# Altium schematic symbol library 野火_STM32F103C8T6核心板_V1.0_原理图封装库_AD格式.SCHLIB: 16 symbols
Pins are listed as number, name and electrical type; pins without a type are passive.

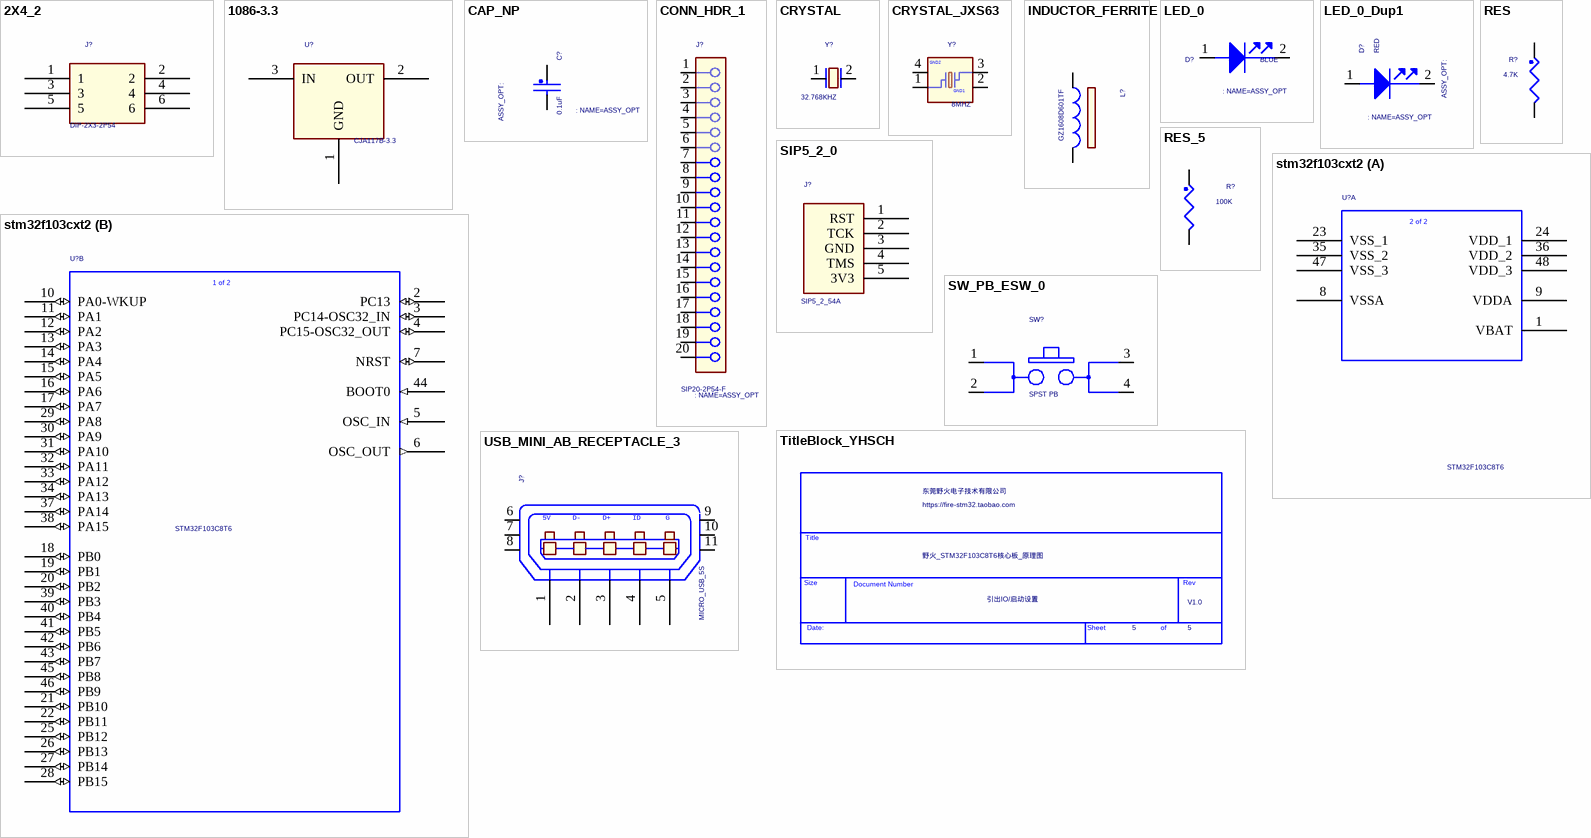
[diagram p0: symbols 2X4_2 to USB_MINI_AB_RECEPTACLE_3]

## 2X4_2
designator J?, comment DIP-2X3-2P54
footprint 2X4_2P54
footprint DIP-2X3-2P54
pins: 1, 2, 3, 4, 5, 6

## 1086-3.3
designator U?, comment CJA117B-3.3
footprint TO252-2
footprint SOT89
pins: 1 GND, 2 OUT, 3 IN

## CAP_NP
designator C?, comment 0.1uF
CAP CER 0.1UF 10V 10% X5R 0402; CLASS: DISCRETE; FPLIST: CC0402_25,CC0402_HD,0402_CC; CAD_APPROVED: Yes; MFG_PN01: C0402C104K8PAC; MFG_NAME01: KEMET; AGILE_PN: 150-75634; VOLTAGE: 10V; HEIGHT: 0.64MM; ROHS: Yes; Tolerance: 10%
footprint C0402
pins: 1, 2
text: NAME=ASSY_OPT

## CONN_HDR_1
designator J?, comment SIP20-2P54-F
CON 1X6 SKT TH 100MIL SP 344H AU 118L; CLASS: IO; CAD_APPROVED: Yes; ASSY_OPT: DNP; Temp_Range: -40°C to +105°C; MFG_PN01: 08001S3 0611-29RF; MFG_NAME01: ANYTRONIC CORPORATION LIMITED; AGILE_PN: 210-81616; HEIGHT: 8.75MM; ROHS: Yes
footprint SIP20-2P54-F
pins: 1, 2, 3, 4, 5, 6, 7, 8, 9, 10, 11, 12, 13, 14, 15, 16, 17, 18, 19, 20
text: NAME=ASSY_OPT

## CRYSTAL
designator Y?, comment 32.768KHZ
XTAL 32.768KHZ 7PF 20PPM -- SMT; CLASS: IC; CAD_APPROVED: Yes; MFG_PN01: FC-135 32.7680KA-AG3; MFG_NAME01: EPSON ELECTRONICS; AGILE_PN: 230-78102; HEIGHT: 0.9MM; ROHS: Yes
footprint 3215
pins: 1, 2

## CRYSTAL_JXS63
designator Y?, comment 8MHZ
XTAL 24MHZ -- 30PPM 3.2X2.5MM SMD; CLASS: IC; CAD_APPROVED: Yes; MFG_PN01: 7V24000002; MFG_NAME01: TXC CORP; AGILE_PN: 230-77452; HEIGHT: 0.9MM; ROHS: Yes
footprint 3225
pins: 1, 2 GND1 (power), 3, 4 GND2 (power)

## INDUCTOR_FERRITE
designator L?, comment GZ1608D601TF
IND FER BEAD 120 OHM@100MHZ 0.5A 25% 0402; PART_TYPE: FERRITE\BEAD; CLASS: DISCRETE; AGILE_PN: 180-77771; MFG_NAME01: Murata; MFG_PN01: BLM15AG121SN1D; CAD_APPROVED: Yes; FPLIST: IND_0402,0402_CC; Tolerance: 25%; ROHS: Yes; HEIGHT: 0.55MM
footprint L0603
pins: 1, 2

## LED_0
designator D?, comment BLUE
CLASS: IC
footprint LED0603
pins: 1 ANODE, 2 CATHODE
text: NAME=ASSY_OPT

## LED_0_Dup1
designator D?, comment RED
LED GRN SGL 25MA 0603; CLASS: IC; AGILE_PN: 370-76549; MFG_NAME01: KINGBRIGHT; MFG_PN01: KPT-1608SGC; CAD_APPROVED: Yes; ROHS: Yes; HEIGHT: 0.85MM
footprint LED0603
pins: 1 ANODE, 2 CATHODE
text: NAME=ASSY_OPT

## RES
designator R?, comment 4.7K
RES MF 1.0M 1/10W 5% 0402; CLASS: DISCRETE; AGILE_PN: 470-79978; MFG_NAME01: PANASONIC; MFG_PN01: ERJ-2GEJ105X; CAD_APPROVED: Yes; FPLIST: RC0402_25,RC0402_HD,0402_CC; HEIGHT: 0.4MM; Tolerance: 5%; ROHS: Yes
footprint R0402
pins: 1, 2

## RES_5
designator R?, comment 100K
RES MF ZERO OHM 1/16W 5% 0402; CLASS: DISCRETE; AGILE_PN: 470-75394; MFG_NAME01: ROHM; MFG_PN01: MCR01MZPJ000; CAD_APPROVED: Yes; FPLIST: RC0402_25,RC0402_HD,RC0402_X2,0402_CC; HEIGHT: 0.45 MM; Tolerance: 5%; ROHS: Yes
footprint R0402
pins: 1, 2

## SIP5_2_0
designator J?, comment SIP5_2_54A
footprint SIP5-2P54
pins: 1 RST, 2 TCK, 3 GND, 4 TMS, 5 3V3

## stm32f103cxt2
designator U?, comment STM32F103C8T6
Manufacturer_Part_Number: stm32f103cxt2; Designator: 2; Vendor: STMicroelectronics; OriginalSymbolOrigin: (30000,20000); PackageName: stm32f103cxt2; Copyright: Copyright (C) 2016 Accelerated Designs. All rights reserved; < Value >: STM32F103C8T6
footprint LQFP48-7x7mm
footprint lqfp48-050-0707
part A pins: 1 VBAT (power), 8 VSSA (power), 9 VDDA (power), 23 VSS_1 (power), 24 VDD_1 (power), 35 VSS_2 (power), 36 VDD_2 (power), 47 VSS_3 (power), 48 VDD_3 (power)
part B pins: 2 PC13 (io), 3 PC14-OSC32_IN (io), 4 PC15-OSC32_OUT (io), 5 OSC_IN (in), 6 OSC_OUT (out), 7 NRST (io), 10 PA0-WKUP (io), 11 PA1 (io), 12 PA2 (io), 13 PA3 (io), 14 PA4 (io), 15 PA5 (io), 16 PA6 (io), 17 PA7 (io), 18 PB0 (io), 19 PB1 (io), 20 PB2 (io), 21 PB10 (io), 22 PB11 (io), 25 PB12 (io), 26 PB13 (io), 27 PB14 (io), 28 PB15 (io), 29 PA8 (io), 30 PA9 (io), 31 PA10 (io), 32 PA11 (io), 33 PA12 (io), 34 PA13 (io), 37 PA14 (io), 38 PA15 (io), 39 PB3 (io), 40 PB4 (io), 41 PB5 (io), 42 PB6 (io), 43 PB7 (io), 44 BOOT0 (in), 45 PB8 (io), 46 PB9 (io)
part A text: 2 of 2
part B text: 1 of 2

## SW_PB_ESW_0
designator SW?, comment SPST PB
SW SPST MOM NO PB TACT 50mA 50V SMT; CLASS: IC; CAD_APPROVED: Yes; MFG_PN01: TL3301AF260QG/TR; MFG_NAME01: E SWITCH; AGILE_PN: 510-77562; HEIGHT: 5MM; ROHS: Yes
footprint SW4_3X3P5
pins: 1 A1, 2 A2, 3 B1, 4 B2

## TitleBlock_YHSCH
designator *?  Doc: 引出IO/启动设置  RevCode: V1.0  Title: 野火_STM32F103C8T6核心板_原理图  OrgName: 东莞野火电子技术有限公司  Page Number: 5  (hidden comment: TitleBlock_YHSCH)  (graphical)
Cage Code: 1; OrgAddr1: https://fire-stm32.taobao.com; Page Count: 5
text: Title; Size; Rev; Document Number; Date:; Sheet; of

## USB_MINI_AB_RECEPTACLE_3
designator J?, comment MICRO_USB_5S
CON 5 USB MICRO_AB RA SKT SMT 0.65MM SP 110H AU; CLASS: IO; AGILE_PN: 211-80104; MFG_NAME01: ANYTRONIC CORPORATION LIMITED; MFG_PN01: 23970101#LCP-58LF; Temp_Range: -55&#8451; to 105&#8451;; CAD_APPROVED: Yes; ROHS: Yes; HEIGHT: 2.8MM
footprint MICRO_USB_5S
pins: 1 P1, 2 P2, 3 P3, 4 P4, 5 P5, 6 SHLD1, 7 SHLD2, 8 SHLD3, 9 SHLD4, 10 SHLD5, 11 SHLD6
text: 5V; D-; D+; ID; G